# EAGLE library part PBK-3-5 (library custom)
AC-DC Power Supply
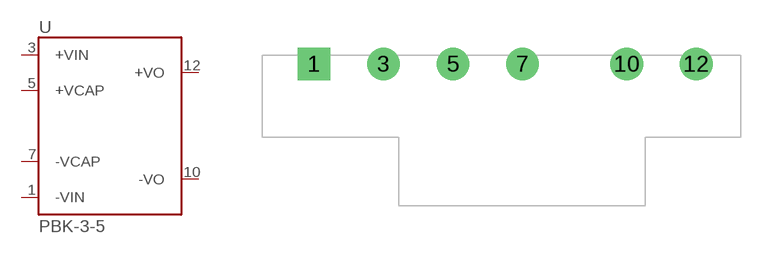
[diagram p3: symbol with the pads of 3-5-VERTICAL; footprint 3-5-VERTICAL]

Designator prefix -

## PBK-3-5  [3-5-VERTICAL]
1  -VIN  pwr
3  +VIN  pwr
5  +VCAP  pwr
7  -VCAP  pwr
10  -VO  out
12  +VO  out

## Footprint 3-5-VERTICAL (pad centres in mm)
PBK-3-5 AC-DC Power supply
drill 1.6 square: 1 0,0
drill 1.6: 3 5.08,0; 5 10.16,0; 7 15.24,0; 10 22.86,0; 12 27.94,0